# EAGLE library part IC_W25X10 (library dp_devices)
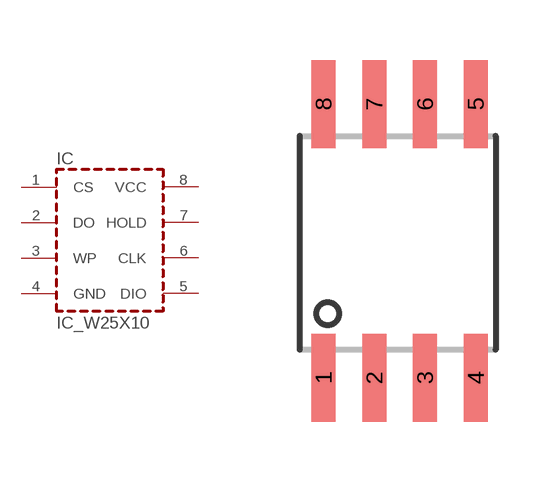
[diagram p85: symbol with the pads of SOIC-8W; footprint SOIC-8W]

Designator prefix IC

## IC_W25X10  [SOIC-8W]
1  CS
2  DO
3  WP
4  GND  pwr
5  DIO
6  CLK
7  HOLD
8  VCC  pwr

## Footprint SOIC-8W (pad centres in mm)
smd 0.6 x 2.2: 1 -1.905,-3.376; 2 -0.635,-3.376; 3 0.635,-3.376; 4 1.905,-3.376; 5 1.905,3.475; 6 0.635,3.475; 7 -0.635,3.475; 8 -1.905,3.475